# EAGLE library part MCP6544 (library yapo)
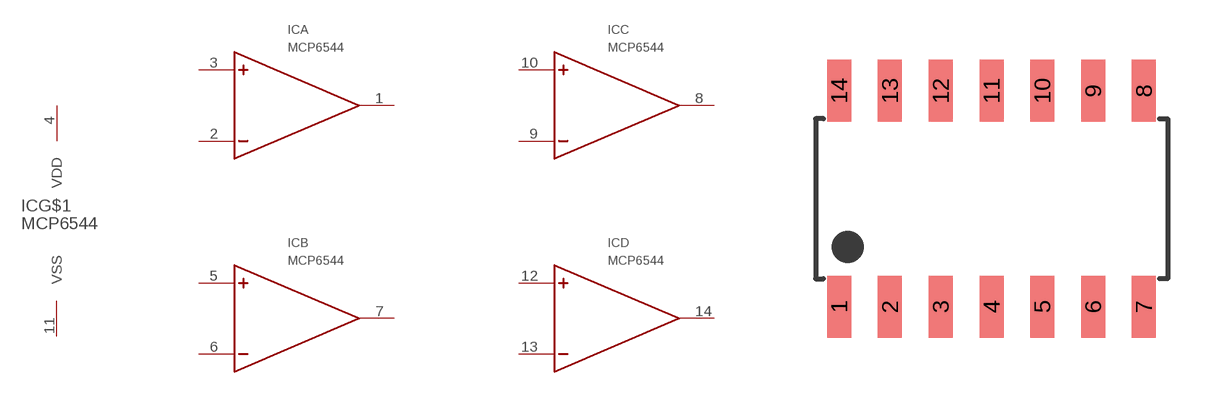
[diagram p87: symbol with the pads of SOIC-14; footprint SOIC-14]

Designator prefix IC; gates G$1=VDD-VSS A=OP_AMP B=OP_AMP C=OP_AMP D=OP_AMP

## MCP6544SOIC  [SOIC-14]
1  A:OUT
2  A:-
3  A:+
4  G$1:VDD
5  B:+
6  B:-
7  B:OUT
8  C:OUT
9  C:-
10  C:+
11  G$1:VSS
12  D:+
13  D:-
14  D:OUT

## Footprint SOIC-14 (pad centres in mm)
smd 0.6 x 1.55: 1 -3.81,-2.7; 2 -2.54,-2.7; 3 -1.27,-2.7; 4 0,-2.7; 5 1.27,-2.7; 6 2.54,-2.7; 7 3.81,-2.7; 8 3.81,2.7; 9 2.54,2.7; 10 1.27,2.7; 11 0,2.7; 12 -1.27,2.7; 13 -2.54,2.7; 14 -3.81,2.7